# Altium footprint library QFN-48.PcbLib: 1 footprints
Each footprint in its own frame and in the unit in brackets; x right, y up, seen from the top. Pads: shape width x height; smd on the part's side, far side on the other; paste and mask are expansions set on the pad; w line width, h text height; cw(c..) or ccw(c..) is an arc to the next point about the centre after c.
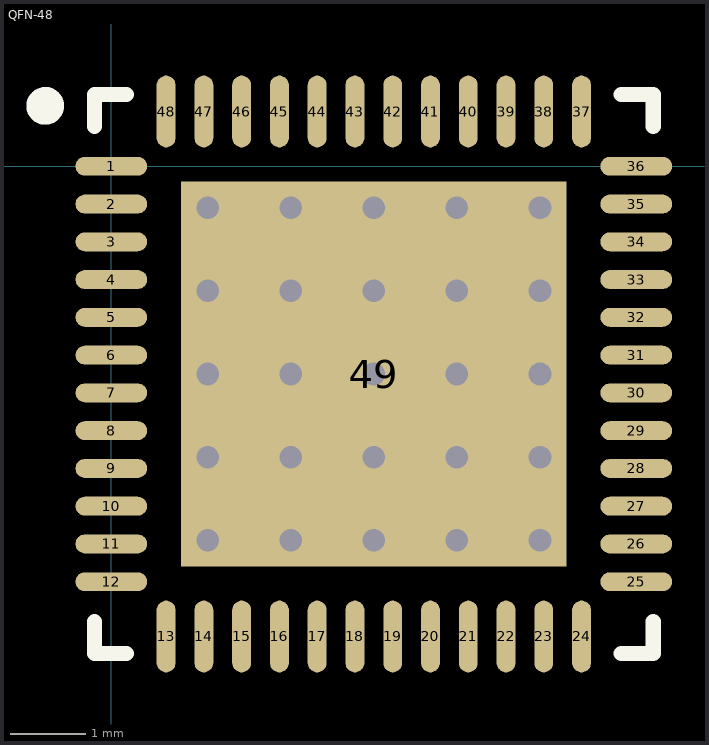
[diagram p0: the footprint, top view; thin cyan lines are the x and y axes]

## QFN-48 [mm] "QFN, 48-Leads, Body 7,00x7,00mm, Pitch 0,50mm, Thermal Pad 5,10x5,10mm, IPC Medium Density"
height 1
pads (49):
  oval 0.95x0.25 smd: 1(0,0) 2(0,-0.5) 3(0,-1) 4(0,-1.5) 5(0,-2) 6(0,-2.5) 7(0,-3) 8(0,-3.5) 9(0,-4) 10(0,-4.5) 11(0,-5) 12(0,-5.5) 25(6.95,-5.5) 26(6.95,-5) 27(6.95,-4.5) 28(6.95,-4) 29(6.95,-3.5) 30(6.95,-3) 31(6.95,-2.5) 32(6.95,-2) 33(6.95,-1.5) 34(6.95,-1) 35(6.95,-0.5) 36(6.95,0)
  oval 0.25x0.95 smd: 13(0.725,-6.225) 14(1.225,-6.225) 15(1.725,-6.225) 16(2.225,-6.225) 17(2.725,-6.225) 18(3.225,-6.225) 19(3.725,-6.225) 20(4.225,-6.225) 21(4.725,-6.225) 22(5.225,-6.225) 23(5.725,-6.225) 24(6.225,-6.225) 37(6.225,0.725) 38(5.725,0.725) 39(5.225,0.725) 40(4.725,0.725) 41(4.225,0.725) 42(3.725,0.725) 43(3.225,0.725) 44(2.725,0.725) 45(2.225,0.725) 46(1.725,0.725) 47(1.225,0.725) 48(0.725,0.725)
  rect 5.1x5.1 smd paste-2539.97: 49(3.475,-2.75)
via 1.275,-0.55 diameter 0.6 hole 0.3
via 2.375,-0.55 diameter 0.6 hole 0.3
via 3.475,-0.55 diameter 0.6 hole 0.3
via 4.575,-0.55 diameter 0.6 hole 0.3
via 5.675,-0.55 diameter 0.6 hole 0.3
via 1.275,-1.65 diameter 0.6 hole 0.3
via 2.375,-1.65 diameter 0.6 hole 0.3
via 3.475,-1.65 diameter 0.6 hole 0.3
via 4.575,-1.65 diameter 0.6 hole 0.3
via 5.675,-1.65 diameter 0.6 hole 0.3
via 1.275,-2.75 diameter 0.6 hole 0.3
via 2.375,-2.75 diameter 0.6 hole 0.3
via 3.475,-2.75 diameter 0.6 hole 0.3
via 4.575,-2.75 diameter 0.6 hole 0.3
via 5.675,-2.75 diameter 0.6 hole 0.3
via 1.275,-3.85 diameter 0.6 hole 0.3
via 2.375,-3.85 diameter 0.6 hole 0.3
via 3.475,-3.85 diameter 0.6 hole 0.3
via 4.575,-3.85 diameter 0.6 hole 0.3
via 5.675,-3.85 diameter 0.6 hole 0.3
via 1.275,-4.95 diameter 0.6 hole 0.3
via 2.375,-4.95 diameter 0.6 hole 0.3
via 3.475,-4.95 diameter 0.6 hole 0.3
via 4.575,-4.95 diameter 0.6 hole 0.3
via 5.675,-4.95 diameter 0.6 hole 0.3
Top Overlay:
  circle w0.25: c-0.875,0.8 r0.125
  lines w0.2: -0.225,-6.025 -0.225,-6.45 0.2,-6.45 ; -0.225,0.525 -0.225,0.95 0.2,0.95 ; 6.75,-6.45 7.175,-6.45 7.175,-6.025 ; 6.75,0.95 7.175,0.95 7.175,0.525
Top Paste:
  rectangle: 2.725,-3.5 4.225,-2
  rectangle: 2.725,-5.4 4.225,-3.9
  rectangle: 2.725,-1.6 4.225,-0.1
  rectangle: 4.625,-3.5 6.125,-2
  rectangle: 0.825,-3.5 2.325,-2
  rectangle: 0.825,-5.4 2.325,-3.9
  rectangle: 4.625,-5.4 6.125,-3.9
  rectangle: 4.625,-1.6 6.125,-0.1
  rectangle: 0.825,-1.6 2.325,-0.1
3D body "QFN-48.step": height 1, standoff 0, extent -0.125,-6.35 7.075,0.85